# EAGLE library part M50-3030842 (library milliLearn-ice40)
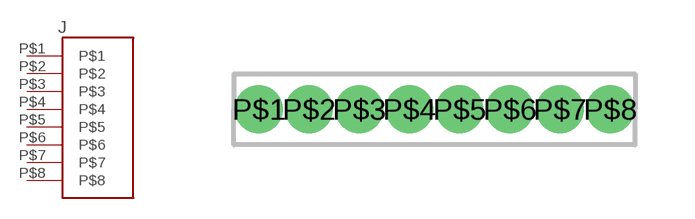
[diagram p9: symbol with the pads of M50-3030842; footprint M50-3030842]

Designator prefix J

## M50-3030842 (MFR: HARWIN; MFR_PN: M50-3030842)  [M50-3030842]
P$1  P$1
P$2  P$2
P$3  P$3
P$4  P$4
P$5  P$5
P$6  P$6
P$7  P$7
P$8  P$8

## Footprint M50-3030842 (pad centres in mm)
drill 0.7: P$1 -4.445,0; P$2 -3.175,0; P$3 -1.905,0; P$4 -0.635,0; P$5 0.635,0; P$6 1.905,0; P$7 3.175,0; P$8 4.445,0